# EAGLE library part JY0-0016 (library pulse-eng)
RJ45/Dual USB Combo
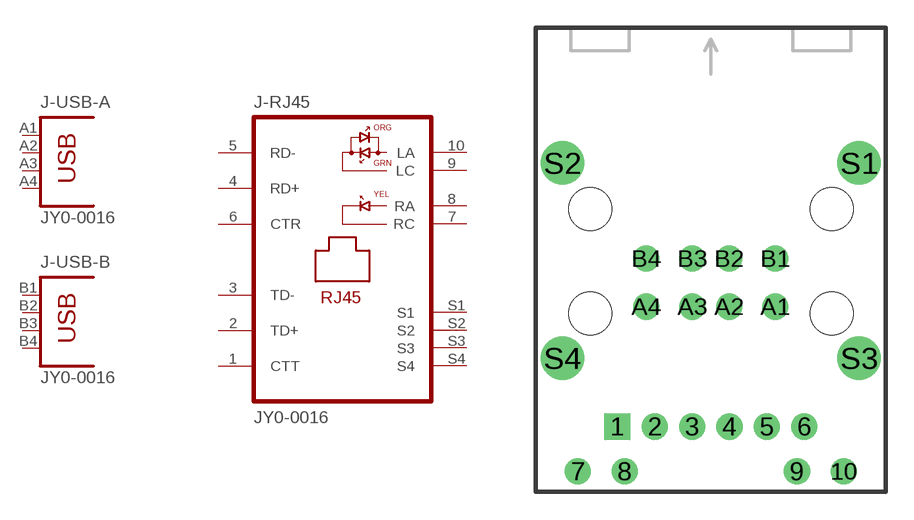
[diagram p1: symbol with the pads of JY0-0016; footprint JY0-0016]

Designator prefix J; gates -RJ45=JY0-0016 -USB-A=USB-4 -USB-B=USB-4

## JY0-0016  [JY0-0016]
1  -RJ45:CTT
2  -RJ45:TD+
3  -RJ45:TD-
4  -RJ45:RD+
5  -RJ45:RD-
6  -RJ45:CTR
7  -RJ45:RC  pas
8  -RJ45:RA  pas
9  -RJ45:LC  pas
10  -RJ45:LA  pas
A1  -USB-A:1  pas
A2  -USB-A:2  pas
A3  -USB-A:3  pas
A4  -USB-A:4  pas
B1  -USB-B:1  pas
B2  -USB-B:2  pas
B3  -USB-B:3  pas
B4  -USB-B:4  pas
S1  -RJ45:S1  pas
S2  -RJ45:S2  pas
S3  -RJ45:S3  pas
S4  -RJ45:S4  pas

## Footprint JY0-0016 (pad centres in mm)
RJ45/Dual USB Combo
drill 0.914 square: 1 -5.08,-14.351
drill 0.914 round: 2 -3.048,-14.351; 3 -1.016,-14.351; 4 1.016,-14.351; 5 3.048,-14.351; 6 5.08,-14.351; 7 -7.226,-16.789; 8 -4.686,-16.789; 9 4.686,-16.789; 10 7.226,-16.789; A1 3.505,-7.823; A2 1.003,-7.823; A3 -1.003,-7.823; A4 -3.505,-7.823; B1 3.505,-5.207; B2 1.003,-5.207; B3 -1.003,-5.207; B4 -3.505,-5.207
drill 1.575 round: S1 8.065,0; S2 -8.065,0; S3 8.065,-10.617; S4 -8.065,-10.617
hole 2.337 at -6.566,-2.515
hole 2.337 at 6.566,-2.515
hole 2.337 at 6.566,-8.204
hole 2.337 at -6.566,-8.204